# EAGLE library part MCP3424 (library trash-robot-eagle-library)
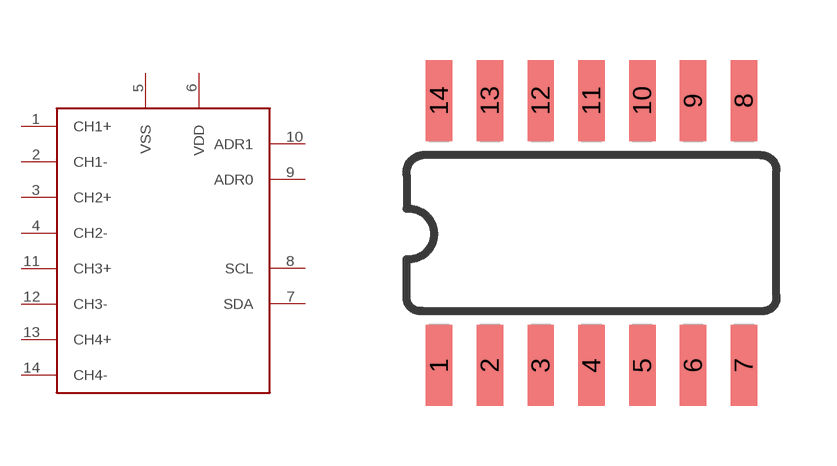
[diagram p8: symbol with the pads of MCP3424; footprint MCP3424]

Designator prefix -

## MCP3424  [MCP3424]
1  CH1+
2  CH1-
3  CH2+
4  CH2-
5  VSS
6  VDD
7  SDA
8  SCL
9  ADR0
10  ADR1
11  CH3+
12  CH3-
13  CH4+
14  CH4-

## Footprint MCP3424 (pad centres in mm)
smd 0.66 x 2.032: 1 -3.175,-3.315; 2 -1.905,-3.315; 3 -0.635,-3.315; 4 0.635,-3.315; 5 1.905,-3.315; 6 3.175,-3.315; 7 4.445,-3.315; 8 4.445,3.315; 9 3.175,3.315; 10 1.905,3.315; 11 0.635,3.315; 12 -0.635,3.315; 13 -1.905,3.315; 14 -3.175,3.315